# Altium integrated library Driver motor.IntLib: 4 symbols
Pins are listed as number, name and electrical type; pins without a type are passive.

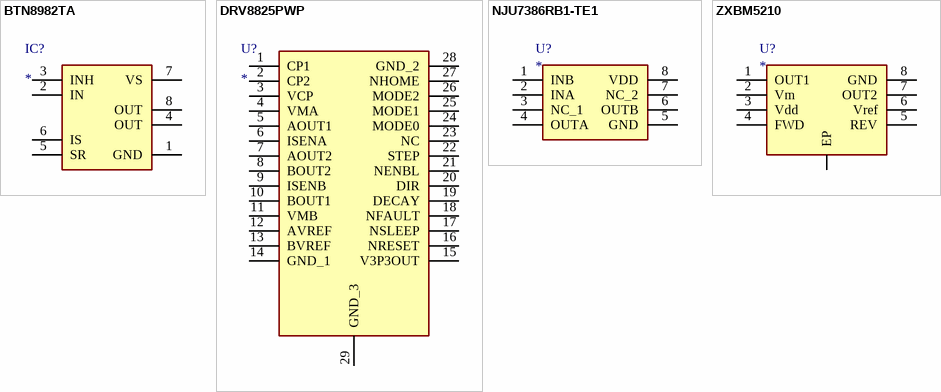
[diagram p0: symbols BTN8982TA to ZXBM5210]

## BTN8982TA
designator IC?
Integrated Circuit; Manufacturer_Name: Infineon; Manufacturer_Part_Number: BTN8982TA; Datasheet Link: http://docs-emea.rs-online.com/webdocs/1478/0900766b81478095.pdf; Height: 4.4mm; Mouser Part Number: 726-BTN8982TA; Mouser Price/Stock: https://www.mouser.co.uk/ProductDetail/Infineon-Technologies/BTN8982TA?qs=y2kkmE52mdPcPfXmFEmVng%3D%3D
footprint TO127P1500X440-8N
pins: 1 GND (power), 2 IN, 3 INH, 4 OUT, 5 SR, 6 IS, 7 VS, 8 OUT

## DRV8825PWP
designator U?
ComponentLink1Description: datasheet; ComponentLink1URL: https://www.ti.com/lit/ds/symlink/drv8825.pdf?HQS=dis-mous-null-mousermode-dsf-pf-null-wwe&ts=1701761937394&ref_url=https%253A%252F%252Fwww.mouser.es%252F
footprint SOP65P640X120-29N
pins: 1 CP1, 2 CP2, 3 VCP, 4 VMA, 5 AOUT1, 6 ISENA, 7 AOUT2, 8 BOUT2, 9 ISENB, 10 BOUT1, 11 VMB, 12 AVREF, 13 BVREF, 14 GND_1, 15 V3P3OUT, 16 NRESET, 17 NSLEEP, 18 NFAULT, 19 DECAY, 20 DIR, 21 NENBL, 22 STEP, 23 NC, 24 MODE0, 25 MODE1, 26 MODE2, 27 NHOME, 28 GND_2, 29 GND_3

## NJU7386RB1-TE1
designator U?
ComponentLink1Description: mouser; ComponentLink1URL: https://www.mouser.es/ProductDetail/Nisshinbo/NJU7386RB1-TE1?qs=T94vaHKWudT3za8GzUoWUg%3D%3D; datasheet: https://www.mouser.es/datasheet/2/294/NJU7386_E-1920782.pdf
pins: 1 INB, 2 INA, 3 NC_1, 4 OUTA, 5 GND, 6 OUTB, 7 NC_2, 8 VDD

## ZXBM5210
designator U?
ComponentLink1Description: mouser; ComponentLink1URL: https://www.mouser.es/ProductDetail/Diodes-Incorporated/ZXBM5210-SP-13?qs=98WN%2FnWUQiQYAgSBGLkvdw%3D%3D; datasheet: https://www.diodes.com/assets/Datasheets/ZXBM5210.pdf
footprint SO-8 - EP (6.00x4.90x1.45)
pins: 1 OUT1, 2 Vm, 3 Vdd, 4 FWD, 5 REV, 6 Vref, 7 OUT2, 8 GND, EP